# Altium schematic symbol library Telemetry_rev3.SchLib: 20 symbols
Pins are listed as number, name and electrical type; pins without a type are passive.

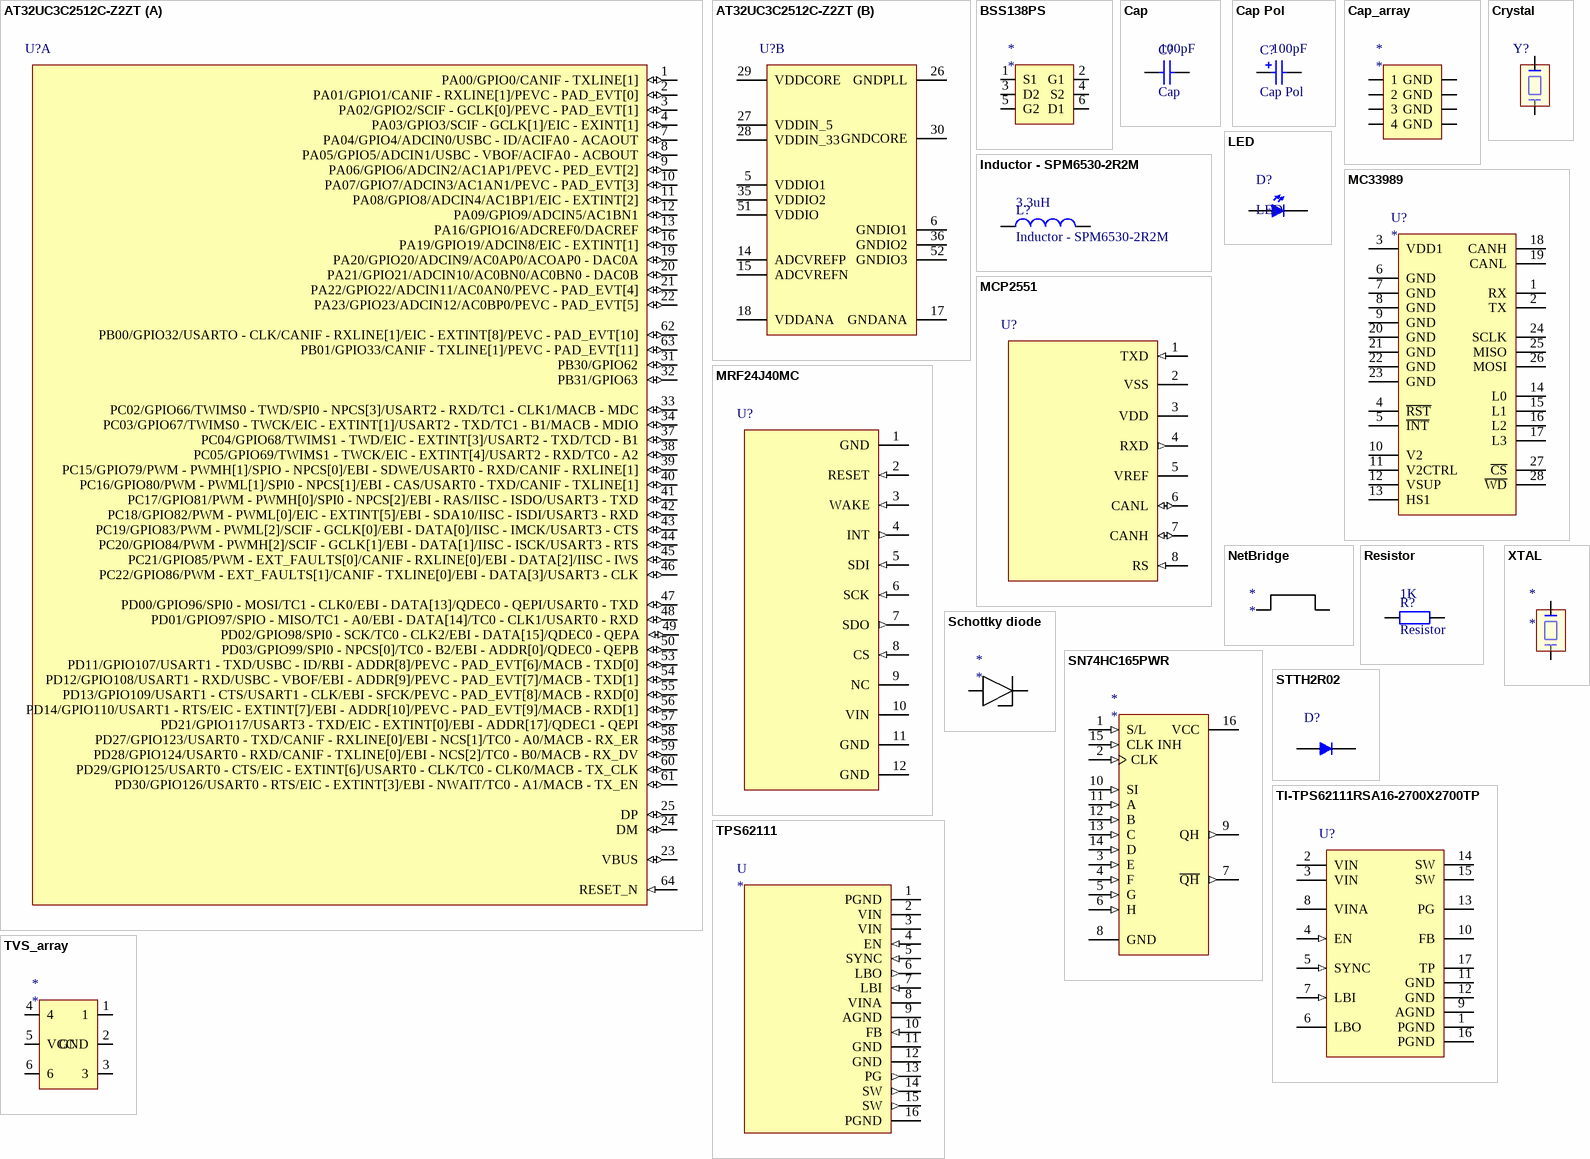
[diagram p0: symbols AT32UC3C2512C-Z2ZT to XTAL]

## AT32UC3C2512C-Z2ZT
designator U?
32-bit AVR UC3 C Series Microcontroller, 512KB Flash, 64KB SRAM, 64-Pin TQFP; Published: 1-Apr-2010; DatasheetVersion: revH, Feb-2010; PackageVersion: 2010; PackageReference: TQFP64; Publisher: Altium Limited; PackageDescription: 64-Pin Thin Quad Flat Pack, 10 x 10 x 1.0 mm Body, 0.5 mm Pitch; Code_JEDEC: MS-026; ComponentLink1Description: Manufacturer Link; ComponentLink1URL: http://www.atmel.com/products/avr/default.asp?; ComponentLink2Description: AT32UC3B Datasheet; ComponentLink2URL: http://www.atmel.com/dyn/resources/prod_documents/doc32059.pdf; ComponentLink3Description: AT32UC3B Summary; ComponentLink3URL: http://www.atmel.com/dyn/resources/prod_documents/32059S.pdf; ComponentLink4Description: Atmel.com Home; ComponentLink4URL: http://www.atmel.com
footprint TQFP64_N (Thin QFP, 64-Leads, Body 10x10mm, Pitch 0.5mm, IPC Medium Density)
footprint TQFP64_L (Thin QFP, 64-Leads, Body 10x10mm, Pitch 0.5mm, IPC High Density)
footprint TQFP64_M (Thin QFP, 64-Leads, Body 10x10mm, Pitch 0.5mm, IPC Low Density)
part A pins: 1 PA00/GPIO0/CANIF - TXLINE[1] (io), 2 PA01/GPIO1/CANIF - RXLINE[1]/PEVC - PAD_EVT[0] (io), 3 PA02/GPIO2/SCIF - GCLK[0]/PEVC - PAD_EVT[1] (io), 4 PA03/GPIO3/SCIF - GCLK[1]/EIC - EXINT[1] (io), 7 PA04/GPIO4/ADCIN0/USBC - ID/ACIFA0 - ACAOUT (io), 8 PA05/GPIO5/ADCIN1/USBC - VBOF/ACIFA0 - ACBOUT (io), 9 PA06/GPIO6/ADCIN2/AC1AP1/PEVC - PED_EVT[2] (io), 10 PA07/GPIO7/ADCIN3/AC1AN1/PEVC - PAD_EVT[3] (io), 11 PA08/GPIO8/ADCIN4/AC1BP1/EIC - EXTINT[2] (io), 12 PA09/GPIO9/ADCIN5/AC1BN1 (io), 13 PA16/GPIO16/ADCREF0/DACREF (io), 16 PA19/GPIO19/ADCIN8/EIC - EXTINT[1] (io), 19 PA20/GPIO20/ADCIN9/AC0AP0/ACOAP0 - DAC0A (io), 20 PA21/GPIO21/ADCIN10/AC0BN0/AC0BN0 - DAC0B (io), 21 PA22/GPIO22/ADCIN11/AC0AN0/PEVC - PAD_EVT[4] (io), 22 PA23/GPIO23/ADCIN12/AC0BP0/PEVC - PAD_EVT[5] (io), 23 VBUS (io), 24 DM (io), 25 DP (io), 31 PB30/GPIO62 (io), 32 PB31/GPIO63 (io), 33 PC02/GPIO66/TWIMS0 - TWD/SPI0 - NPCS[3]/USART2 - RXD/TC1 - CLK1/MACB - MDC (io), 34 PC03/GPIO67/TWIMS0 - TWCK/EIC - EXTINT[1]/USART2 - TXD/TC1 - B1/MACB - MDIO (io), 37 PC04/GPIO68/TWIMS1 - TWD/EIC - EXTINT[3]/USART2 - TXD/TCD - B1 (io), 38 PC05/GPIO69/TWIMS1 - TWCK/EIC - EXTINT[4]/USART2 - RXD/TC0 - A2 (io), 39 PC15/GPIO79/PWM - PWMH[1]/SPIO - NPCS[0]/EBI - SDWE/USART0 - RXD/CANIF - RXLINE[1] (io), 40 PC16/GPIO80/PWM - PWML[1]/SPI0 - NPCS[1]/EBI - CAS/USART0 - TXD/CANIF - TXLINE[1] (io), 41 PC17/GPIO81/PWM - PWMH[0]/SPI0 - NPCS[2]/EBI - RAS/IISC - ISDO/USART3 - TXD (io), 42 PC18/GPIO82/PWM - PWML[0]/EIC - EXTINT[5]/EBI - SDA10/IISC - ISDI/USART3 - RXD (io), 43 PC19/GPIO83/PWM - PWML[2]/SCIF - GCLK[0]/EBI - DATA[0]/IISC - IMCK/USART3 - CTS (io), 44 PC20/GPIO84/PWM - PWMH[2]/SCIF - GCLK[1]/EBI - DATA[1]/IISC - ISCK/USART3 - RTS (io), 45 PC21/GPIO85/PWM - EXT_FAULTS[0]/CANIF - RXLINE[0]/EBI - DATA[2]/IISC - IWS (io), 46 PC22/GPIO86/PWM - EXT_FAULTS[1]/CANIF - TXLINE[0]/EBI - DATA[3]/USART3 - CLK (io), 47 PD00/GPIO96/SPI0 - MOSI/TC1 - CLK0/EBI - DATA[13]/QDEC0 - QEPI/USART0 - TXD (io), 48 PD01/GPIO97/SPIO - MISO/TC1 - A0/EBI - DATA[14]/TC0 - CLK1/USART0 - RXD (io), 49 PD02/GPIO98/SPI0 - SCK/TC0 - CLK2/EBI - DATA[15]/QDEC0 - QEPA (io), 50 PD03/GPIO99/SPI0 - NPCS[0]/TC0 - B2/EBI - ADDR[0]/QDEC0 - QEPB (io), 53 PD11/GPIO107/USART1 - TXD/USBC - ID/RBI - ADDR[8]/PEVC - PAD_EVT[6]/MACB - TXD[0] (io), 54 PD12/GPIO108/USART1 - RXD/USBC - VBOF/EBI - ADDR[9]/PEVC - PAD_EVT[7]/MACB - TXD[1] (io), 55 PD13/GPIO109/USART1 - CTS/USART1 - CLK/EBI - SFCK/PEVC - PAD_EVT[8]/MACB - RXD[0] (io), 56 PD14/GPIO110/USART1 - RTS/EIC - EXTINT[7]/EBI - ADDR[10]/PEVC - PAD_EVT[9]/MACB - RXD[1] (io), 57 PD21/GPIO117/USART3 - TXD/EIC - EXTINT[0]/EBI - ADDR[17]/QDEC1 - QEPI (io), 58 PD27/GPIO123/USART0 - TXD/CANIF - RXLINE[0]/EBI - NCS[1]/TC0 - A0/MACB - RX_ER (io), 59 PD28/GPIO124/USART0 - RXD/CANIF - TXLINE[0]/EBI - NCS[2]/TC0 - B0/MACB - RX_DV (io), 60 PD29/GPIO125/USART0 - CTS/EIC - EXTINT[6]/USART0 - CLK/TC0 - CLK0/MACB - TX_CLK (io), 61 PD30/GPIO126/USART0 - RTS/EIC - EXTINT[3]/EBI - NWAIT/TC0 - A1/MACB - TX_EN (io), 62 PB00/GPIO32/USARTO - CLK/CANIF - RXLINE[1]/EIC - EXTINT[8]/PEVC - PAD_EVT[10] (io), 63 PB01/GPIO33/CANIF - TXLINE[1]/PEVC - PAD_EVT[11] (io), 64 RESET_N (in)
part B pins: 5 VDDIO1, 6 GNDIO1, 14 ADCVREFP, 15 ADCVREFN, 17 GNDANA (power), 18 VDDANA (power), 26 GNDPLL (power), 27 VDDIN_5, 28 VDDIN_33, 29 VDDCORE (power), 30 GNDCORE, 35 VDDIO2, 36 GNDIO2, 51 VDDIO, 52 GNDIO3

## BSS138PS
designator *
footprint BSS138PS - SOT363
pins: 1 S1, 2 G1, 3 D2, 4 S2, 5 G2, 6 D1

## Cap
designator C?  value 100pF
Capacitor
simulation model CAP (Capacitor)
signal-integrity model Cap
footprint 1608[0603] (Chip Capacitor, Body 1.6x0.8mm, IPC High Density)
footprint c0805 (Chip Capacitor, Body 2.0x1.3mm, IPC High Density)
footprint CAPC3216L (Chip Capacitor, Body 3.2x1.6mm, IPC High Density)
pins: 1, 2

## Cap Pol
designator C?  value 100pF
Polarized Capacitor (Radial); Published: 8-Jun-2000; LatestRevisionDate: 17-Jul-2002; LatestRevisionNote: Re-released for DXP Platform.; PackageReference: RB7.6-15; Publisher: Altium Limited; PackageDescription: Polarized Capacitor (Radial); 2 Leads
footprint RB7.6-15 (Polarized Capacitor (Radial); 2 Leads)
simulation model CAP (Capacitor)
signal-integrity model Cap Pol
footprint CAP_electrolyte
pins: 1, 2
1 alternate drawing of the same symbol

## Cap_array
designator *
footprint Cap_array_0805
pins: 1, 2, 3, 4, 5 GND, 6 GND, 7 GND, 8 GND

## Crystal
designator Y?  (value not drawn)
footprint SMD-CRYSTAL (Quartz Crystal, SM; Body 5.0x 3.2 mm (LxW))
footprint SMD-CRYSTAL (Quartz Crystal, SM; Body 5.0x 3.2 mm (LxW))
pins: 1, 2, 3, 4

## Inductor - SPM6530-2R2M
designator L?  value 3.3uH
SMT Power Choke Coil; Size 7.3×6.6×3.0mm, ±20% Tolerance, 3.3uH, 6A; PCB_Layout: Complies with manufacturer's recommendation.; Published: 26-Sep-2008; DatasheetVersion: Oct-2007; PackageVersion: Oct-2007; PackageReference: PCMC063T; Publisher: Altium Limited; PackageDescription: SM Power Choke Coil; 2 Leads; Body 7.3 x 6.6 x 3.0 mm (LxWxH); ComponentLink1Description: Manufacturer Link; ComponentLink1URL: http://www.susumu.co.jp/; ComponentLink2Description: Datasheet; ComponentLink2URL: http://www.susumu.co.jp/english/pdf/products-j07-01.pdf
footprint PCMC063T (SM Inductor; 2 Leads; Body 7.3x6.6mm (LxW))
footprint PCMC063T_V (SM Inductor; 2 Leads; Body 7.3x6.6mm (LxW), SSM Recommended)
simulation model INDUCTOR (Inductor)
signal-integrity model Inductor
footprint 1608[0603] (Chip Capacitor, Body 1.6x0.8mm, IPC High Density)
footprint Drossel
pins: 1, 2

## LED
designator D?
footprint 1608[0603] (Chip Capacitor, Body 1.6x0.8mm, IPC High Density)
pins: 1 A, 2 K

## MC33989
designator U?
footprint SOIC127P1030X265-28N (SOIC, 28-Leads, Body 18,0x7,6mm (max), Pitch 1,27mm, IPC Medium Density)
pins: 1 RX, 2 TX, 3 VDD1, 4 ~{RST}, 5 ~{INT}, 6 GND, 7 GND, 8 GND, 9 GND, 10 V2, 11 V2CTRL, 12 VSUP, 13 HS1, 14 L0, 15 L1, 16 L2, 17 L3, 18 CANH, 19 CANL, 20 GND, 21 GND, 22 GND, 23 GND, 24 SCLK, 25 MISO, 26 MOSI, 27 ~{CS}, 28 ~{WD}

## MCP2551
designator U?
footprint SOP8 (SOP, 8-Leads, Body 6.2x5mm, Pitch 1.27mm)
pins: 1 TXD (in), 2 VSS (power), 3 VDD (power), 4 RXD (out), 5 VREF (power), 6 CANL (io), 7 CANH (io), 8 RS (in)

## MRF24J40MC
designator U?
footprint MRF24J40MB (SM Module; 12 Leads; Body 33x22.9x2.5mm (LxWxH), Microchip Recommended)
pins: 1 GND (power), 2 RESET (in), 3 WAKE (in), 4 INT (out), 5 SDI (in), 6 SCK (in), 7 SDO (out), 8 CS (in), 9 NC, 10 VIN (power), 11 GND (power), 12 GND (power)

## NetBridge
designator *
footprint NetBridge
pins: 0, 1

## Resistor
designator R?  value 1K
footprint AXIAL-0.4 (Axial Device, Thru-Hole; 2 Leads; 0.4 in Pin Spacing)
simulation model RESISTOR (Resistor)
signal-integrity model Res
footprint 1608[0603] (Chip Capacitor, Body 1.6x0.8mm, IPC High Density)
pins: 1, 2

## Schottky diode
designator *
footprint 1608[0603] (Chip Capacitor, Body 1.6x0.8mm, IPC High Density)
pins: 1, 2

## SN74HC165PWR
designator *
footprint TSOP65P640X120-16N (TSOP, 16-Leads, Body 5,00x4,40mm, Pitch 0,65mm, IPC Medium Density)
pins: 1 S/L (in), 2 CLK (in), 3 E (in), 4 F (in), 5 G (in), 6 H (in), 7 ~{QH} (out), 8 GND (power), 9 QH (out), 10 SI (in), 11 A (in), 12 B (in), 13 C (in), 14 D (in), 15 CLK INH (in), 16 VCC (power)

## STTH2R02
designator D?
footprint STTH2R02A
pins: 1 A, 2 K

## TI-TPS62111RSA16-2700X2700TP
designator U?
footprint RSA16-2700X2700TP (QFN, 16-Leads, Body 4x4mm, Pitch 0.65mm, Thermal Pad 2.7x2.7mm, TI Recommended)
pins: 1 PGND (power) "Power ground. Connect all power grounds to this pin.", 2 VIN (power) "Supply voltage input (power stage).", 3 VIN (power) "Supply voltage input (power stage).", 4 EN (in) "Enable. A logic high enables the converter; logic low forces the device into shutdown mode reducing the supply current to less than 2 µ A.", 5 SYNC (in) "Input for synchronization to external clock signal. Synchronizes the converter switching frequency to anexternal clock signal with CMOS level: SYNC = HIGH: Low-noise mode enabled, fixed frequency PWM operation is forced. (See Datasheet)", 6 LBO (hiz) "Open-drain, low-battery output. This pin is pulled low if LBI is below its threshold.", 7 LBI (in) "Low-battery input.", 8 VINA (power) "Supply voltage input (support circuits).", 9 AGND (power) "Analog ground, connect to GND and PGND.", 10 FB "Feedback pin for the fixed output voltage option. For the adjustable version, an external resistive divider is connected to this pin. The internal voltage divider is disabled for the adjustable version.", 11 GND (power) "Ground.", 12 GND (power) "Ground.", 13 PG (oc) "Power good comparator output. This is an open-drain output. A pullup resistor should be connected between PG and VOUT. The output goes active high when the output voltage is greater than 98.4% of the nominal value.", 14 SW (power) "Connect the inductor to this pin. This pin is the switch pin and connected to the drain of the internal power MOSFETS.", 15 SW (power) "Connect the inductor to this pin. This pin is the switch pin and connected to the drain of the internal power MOSFETS.", 16 PGND (power) "Power ground. Connect all power grounds to this pin.", 17 TP (power) "Connect to AGND."

## TPS62111
designator U
footprint Quad16
pins: 1 PGND (power) "Power ground. Connect all power grounds to this pin", 2 VIN (power) "Supply voltage input (power stage)", 3 VIN (power) "Supply voltage input (power stage)", 4 EN (in) "Enable. A logic high enables the converter; logic low forces the device into shutdown mode reducing the supply current to less than 2 µA. Do not leave floating.", 5 SYNC (in) "Input for synchronization to external clock signal. Synchronizes the converter switching frequency to an external clock signal with CMOS level. Also controls power save mode by being tied high or low: SYNC = HIGH: Low-noise mode enabled, fixed frequency PWM operation is forced, SYNC = LOW (GND): P", 6 LBO (out) "Open-drain, low-battery output. This pin is pulled low if LBI is below its threshold. If not used, the pin may be left floating or connected to GND.", 7 LBI (in) "Low-battery input. Do not leave floating.", 8 VINA (power) "Supply voltage input (support circuits)", 9 AGND (power) "Analog ground, connect to GND and PGND", 10 FB (in) "Feedback pin for the fixed output voltage versions. Connect to VOUT for these devices. For the adjustable versions, an external resistive divider is connected to this pin. The internal voltage divider is disabled for the adjustable versions.", 11 GND (power) "Ground", 12 GND (power) "Ground", 13 PG (out) "Power good comparator output. This is an open-drain output. A pullup resistor should be connected between PG and VOUT. The output goes high when the output voltage is greater than 98.4% of the nominal value. If not used, the pin may be left floating or connected", 14 SW (out) "Connect the inductor to this pin. This pin is the switch pin and connected to the drain of the internal power MOSFETS.", 15 SW (out) "Connect the inductor to this pin. This pin is the switch pin and connected to the drain of the internal power MOSFETS.", 16 PGND (power) "Power ground. Connect all power grounds to this pin nominal value. If not used, the pin may be left floating or connected to GND."

## TVS_array
designator *
footprint TVS_array_SOT23
pins: 1, 2 GND, 3, 4, 5 VCC, 6

## XTAL
designator *
footprint XTAL SMD
pins: 1, 3